# Altium schematic symbol library Magnetic-Sensor.SchLib: 2 symbols
Pins are listed as number, name and electrical type; pins without a type are passive.

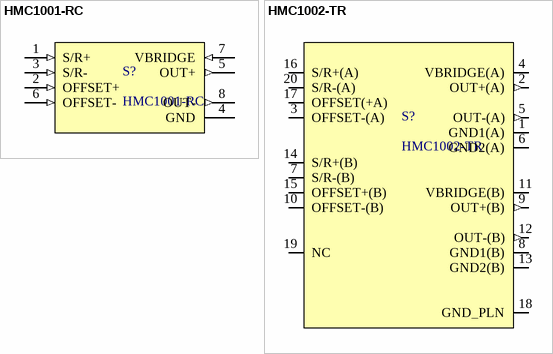
[diagram p0: symbols HMC1001-RC to HMC1002-TR]

## HMC1001-RC
designator S?
Magnetoresistive Sensor Single Axis 8- Pin SIP; Supplier 1: Digi-Key; Supplier Part Number 1: 342-1001-5-ND; Value: N/A; Precision: N/A; Package / Case: 8-SIP; Mounted: Yes
footprint SIP-8
pins: 1 S/R+ (in), 2 OFFSET+ (in), 3 S/R- (in), 4 GND (power), 5 OUT+ (out), 6 OFFSET- (in), 7 VBRIDGE (in), 8 OUT- (out)

## HMC1002-TR
designator S?
Magnetoresistive Sensor X, Y Axis 20-SOIC; Supplier 1: Digi-Key; Supplier Part Number 1: 342-1070-2-ND; Value: N/A; Precision: N/A; Package / Case: 20-SOIC; Mounted: Yes
footprint SOIC20_HNW-M
pins: 1 GND1(A) (power), 2 OUT+(A) (out), 3 OFFSET-(A) (io), 4 VBRIDGE(A), 5 OUT-(A) (out), 6 GND2(A) (power), 7 S/R-(B) (io), 8 GND1(B) (power), 9 OUT+(B) (out), 10 OFFSET-(B) (io), 11 VBRIDGE(B), 12 OUT-(B) (out), 13 GND2(B) (power), 14 S/R+(B), 15 OFFSET+(B), 16 S/R+(A), 17 OFFSET(+A), 18 GND_PLN (power), 19 NC, 20 S/R-(A) (io)